# EAGLE library part CHERRY_MX_RGB_ADD (library connectors)
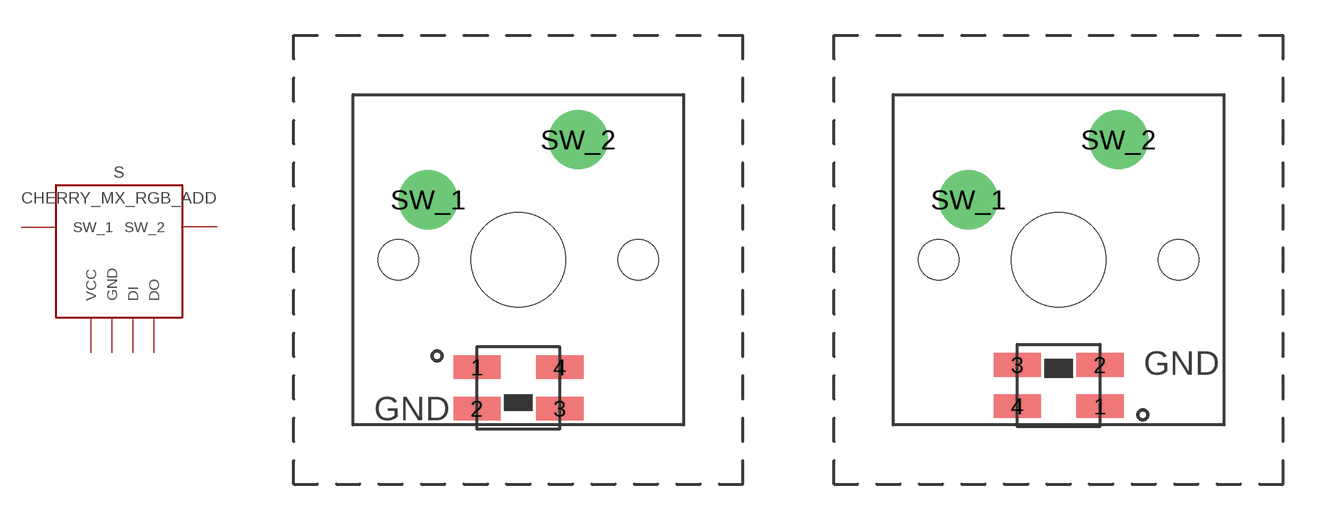
[diagram p11: symbol with the pads of MX_CHERRY_RGB; footprints MX_CHERRY_RGB, MX_CHERRY_RGB_INVERT]

Designator prefix S

## CHERRY_MX_RGB_ADDNORMAL  [MX_CHERRY_RGB]
1  DO
2  GND
3  DI
4  VCC
SW_1  SW_1
SW_2  SW_2

## CHERRY_MX_RGB_ADDINVERT  [MX_CHERRY_RGB_INVERT]
Pads as for MX_CHERRY_RGB

## Footprint MX_CHERRY_RGB (pad centres in mm)
smd 2 x 1: 1 -1.75,-4.55; 2 -1.75,-6.3; 3 1.75,-6.3; 4 1.75,-4.55
drill 1.499 pad 2.5: SW_1 -3.81,2.54; SW_2 2.54,5.08
hole 3.988 at 0,0
hole 1.702 at -5.08,0
hole 1.702 at 5.08,0

## Footprint MX_CHERRY_RGB_INVERT (pad centres in mm)
smd 2 x 1: 1 1.75,-6.2; 2 1.75,-4.45; 3 -1.75,-4.45; 4 -1.75,-6.2
drill 1.499 pad 2.5: SW_1 -3.81,2.54; SW_2 2.54,5.08
hole 3.988 at 0,0
hole 1.702 at -5.08,0
hole 1.702 at 5.08,0